# Altium footprint library R0402_0.40MM_HD.PcbLib: 1 footprints
Each footprint in its own frame and in the unit in brackets; x right, y up, seen from the top. Pads: shape width x height; smd on the part's side, far side on the other; paste and mask are expansions set on the pad; w line width, h text height; cw(c..) or ccw(c..) is an arc to the next point about the centre after c.
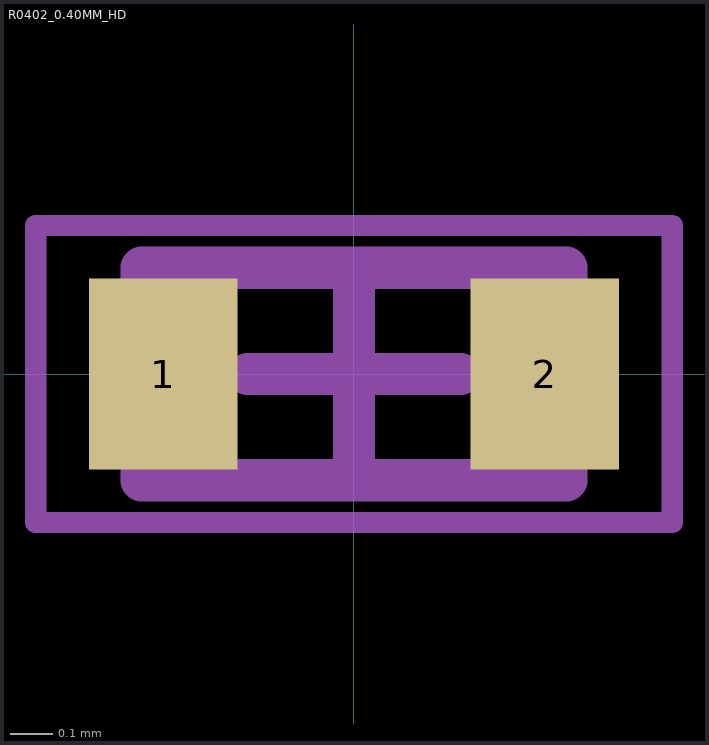
[diagram p0: the footprint, top view; thin cyan lines are the x and y axes]

## R0402_0.40MM_HD [mm] "Resistor 0402 High Density"
height 0.4
pads (2):
  rect 0.35x0.45 smd: 1(-0.45,0) 2(0.45,0)
Mechanical 13:
  lines w0.1: -0.5,-0.25 -0.5,0.25 0.5,0.25 0.5,-0.25 -0.5,-0.25
Mechanical 15:
  lines w0.05: -0.75,-0.35 -0.75,0.35 0.75,0.35 0.75,-0.35 -0.75,-0.35
  lines w0.1: -0.25,0 0.25,0 ; 0,-0.25 0,0.25
3D body "RESC1005X04L.step": height 0.4, standoff 0, extent -0.5,-0.25 0.5,0.25